# EAGLE library part P9813-14 (library SPCoast)
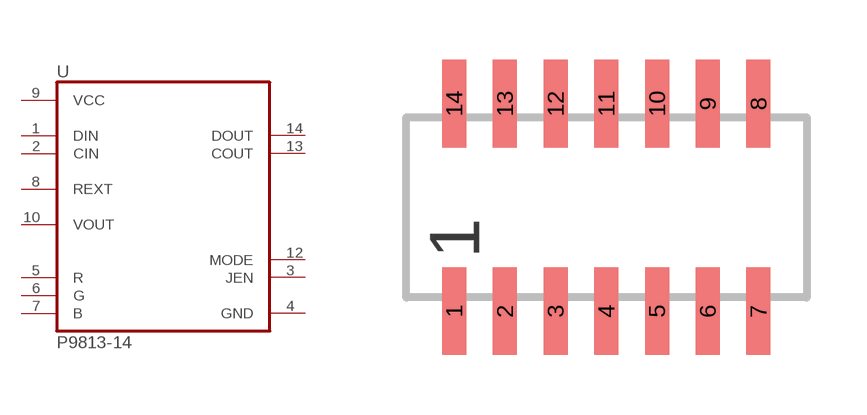
[diagram p69: symbol with the pads of SOP14; footprint SOP14]

Designator prefix -

## P9813-14S  [SOP14]
1  DIN  in
2  CIN  in
3  JEN
4  GND
5  R  in
6  G  in
7  B  in
8  REXT  out
9  VCC
10  VOUT  out
12  MODE
13  COUT  in
14  DOUT  in

## Footprint SOP14 (pad centres in mm)
SMALL OUTLINE PACKAGE
smd 0.6 x 2.2: 1 -3.81,-2.6; 2 -2.54,-2.6; 3 -1.27,-2.6; 4 0,-2.6; 5 1.27,-2.6; 6 2.54,-2.6; 7 3.81,-2.6; 8 3.81,2.6; 9 2.54,2.6; 10 1.27,2.6; 11 0,2.6; 12 -1.27,2.6; 13 -2.54,2.6; 14 -3.81,2.6